# Altium footprint library TPS7A0215PDQNR.PcbLib: 1 footprints
Each footprint in its own frame and in the unit in brackets; x right, y up, seen from the top. Pads: shape width x height; smd on the part's side, far side on the other; paste and mask are expansions set on the pad; w line width, h text height; cw(c..) or ccw(c..) is an arc to the next point about the centre after c.
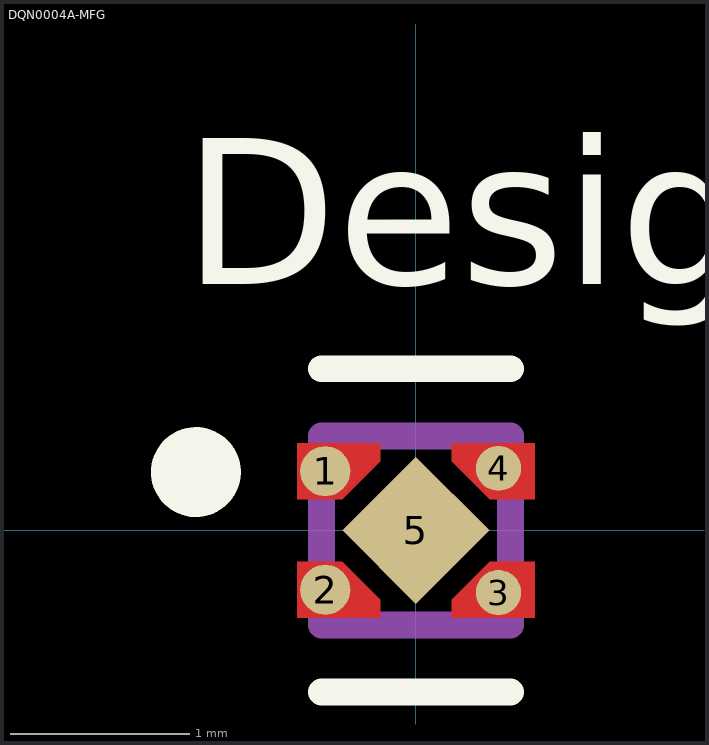
[diagram p0: the footprint, top view; thin cyan lines are the x and y axes]

## DQN0004A-MFG [mm]
pads (5):
  round 0.279 smd paste-0.127 mask-0.127: 1(-0.505,0.33) 2(-0.505,-0.33)
  round 0.251 smd paste-0.113 mask-0.114: 3(0.459,-0.346) 4(0.459,0.346)
  rect 0.58x0.58 smd rot 135 paste-0.277 mask-0.279: 5(0,0)
Top Layer:
  region: -0.66,-0.175 -0.66,-0.485 -0.2,-0.485 -0.2,-0.385 -0.41,-0.175
  region: 0.66,0.175 0.66,0.485 0.2,0.485 0.2,0.385 0.41,0.175
  region: 0.66,-0.175 0.66,-0.485 0.2,-0.485 0.2,-0.385 0.41,-0.175
  region: -0.66,0.175 -0.66,0.485 -0.2,0.485 -0.2,0.385 -0.41,0.175
Top Overlay:
  circle w0.25: c-1.225,0.325 r0.125
  lines w0.15: -0.525,-0.9 0.525,-0.9 ; -0.525,0.9 0.525,0.9
  text "Designator9" at -1.295,1.372 h1.27
Top Paste:
  region: 0.65,-0.225 0.65,-0.435 0.25,-0.435 0.25,-0.405 0.43,-0.225
  region: -0.65,-0.225 -0.65,-0.435 -0.25,-0.435 -0.25,-0.405 -0.43,-0.225
  region: 0.65,0.225 0.65,0.435 0.25,0.435 0.25,0.405 0.43,0.225
  region: -0.65,0.225 -0.65,0.435 -0.25,0.435 -0.25,0.405 -0.43,0.225
  region: 0.283,0.035 0.283,-0.035 0.035,-0.283 -0.035,-0.283 -0.283,-0.035 -0.283,0.035 -0.035,0.283 0.035,0.283
Top Solder:
  region: -0.61,-0.225 -0.61,-0.435 -0.25,-0.435 -0.25,-0.405 -0.43,-0.225
  region: 0.61,-0.225 0.61,-0.435 0.25,-0.435 0.25,-0.405 0.43,-0.225
  region: 0.61,0.225 0.61,0.435 0.25,0.435 0.25,0.405 0.43,0.225
  region: -0.61,0.225 -0.61,0.435 -0.25,0.435 -0.25,0.405 -0.43,0.225
  region: -0.304,-0.035 -0.304,0.035 -0.035,0.304 0.035,0.304 0.304,0.035 0.304,-0.035 0.035,-0.304 -0.035,-0.304
Mechanical 13:
  lines w0.15: -0.525,-0.525 -0.525,0.525 0.525,0.525 0.525,-0.525 -0.525,-0.525